# EAGLE library part FM25W256 (library FM25W256 FERAM)
FeRAM Module
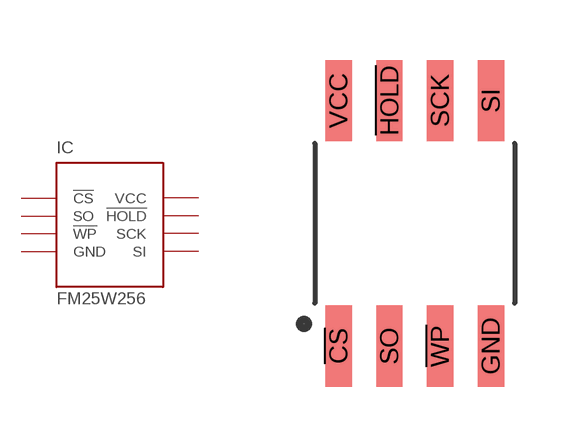
[diagram p0: symbol with the pads of SOIC08; footprint SOIC08]

Designator prefix IC

## FM25W256-SOIC (OC_FARNELL: unknown; OC_NEWARK: unknown)  [SOIC08]
!CS!  !CS!  in
!HOLD!  !HOLD!  in
!WP!  !WP!  in
GND  GND  pwr
SCK  SCK  in
SI  SI  in
SO  SO  out
VCC  VCC  pwr

## Footprint SOIC08 (pad centres in mm)
Small Outline Package
smd 0.66 x 2.032: !CS! -1.905,-3.073; !HOLD! -0.635,3.073; !WP! 0.635,-3.073; GND 1.905,-3.073; SCK 0.635,3.073; SI 1.905,3.073; SO -0.635,-3.073; VCC -1.905,3.073